# Altium footprint library PcbLib3.pcblib: 44 footprints (part 1 of 3)
Each footprint in its own frame and in the unit in brackets; x right, y up, seen from the top. Pads: shape width x height; smd on the part's side, far side on the other; paste and mask are expansions set on the pad; w line width, h text height; cw(c..) or ccw(c..) is an arc to the next point about the centre after c.
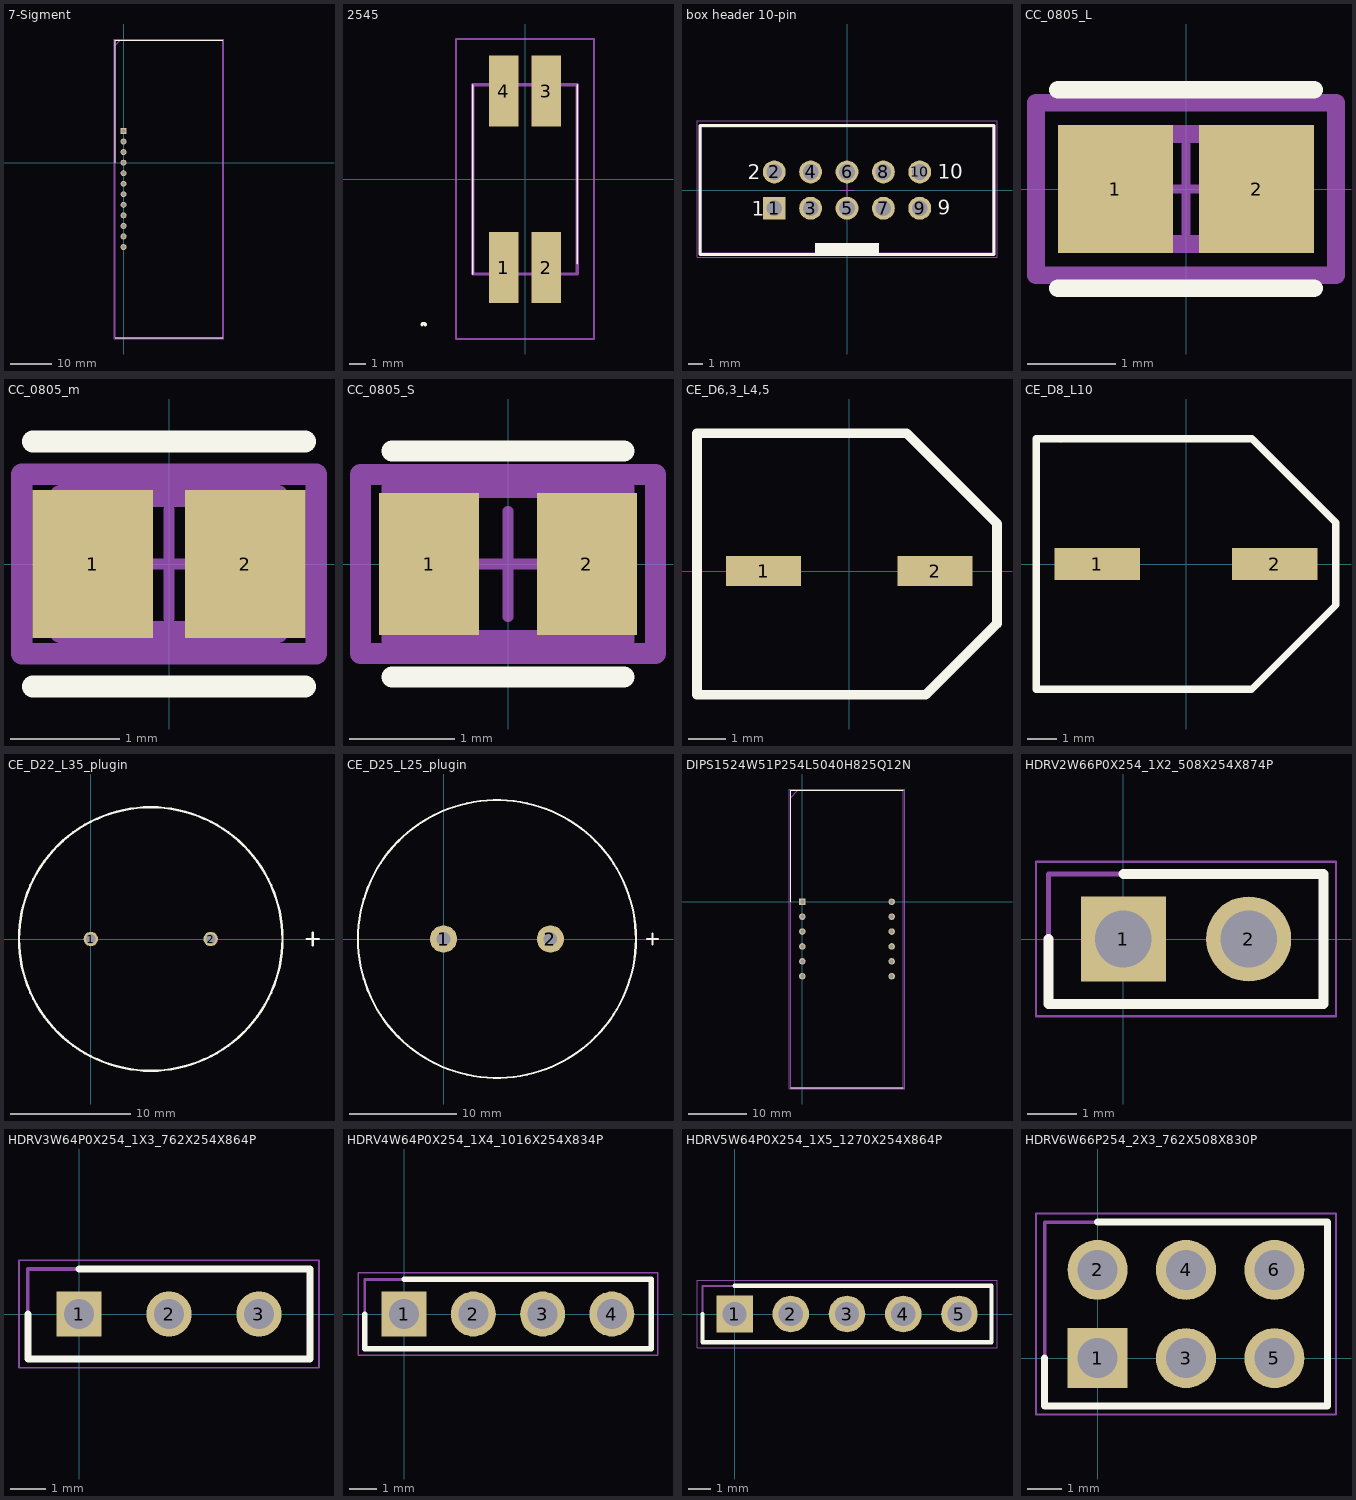
[diagram p0: the footprints below, top view; thin cyan lines are the x and y axes]

## 7-Sigment [mm]
pads (12):
  rect 1.425x1.425 hole 0.95: 1(0,7.62)
  round 1.425 hole 0.95: 2(0,5.08) 3(0,2.54) 4(0,0) 5(0,-2.54) 6(0,-5.08) 7(0,-7.62) 8(0,-10.16) 9(0,-12.7) 10(0,-15.24) 11(0,-17.78) 12(0,-20.32)
Top Overlay:
  lines w0.2: -2.025,-42.225 23.925,-42.225 ; -2.025,0 -2.025,29.525 23.925,29.525
Mechanical 13:
  lines w0.1: -2.025,28.255 -0.755,29.525 ; -2.025,-42.225 23.925,-42.225 23.925,29.525 -2.025,29.525 -2.025,-42.225
Mechanical 15:
  lines w0.05: -2.275,-42.475 24.175,-42.475 24.175,29.775 -2.275,29.775 -2.275,-42.475

## 2545 [mm]
pads (4):
  rect 1.78x4.27 smd: 1(-1.27,-5.305) 2(1.27,-5.305) 3(1.27,5.305) 4(-1.27,5.305)
Top Overlay:
  lines w0.1: -3.15,-5.69 -3.15,5.69 ; 3.15,-5.08 3.15,5.69
  lines w0.2: -6.196,-8.763 cw(c-6.096,-8.763) -5.996,-8.763
Mechanical 13:
  lines w0.2: -3.15,-5.69 3.15,-5.69 3.15,5.69 -3.15,5.69 -3.15,-5.69
Mechanical 15:
  lines w0.1: -4.15,-9.6 4.15,-9.6 4.15,8.44 -4.15,8.44 -4.15,-9.6
3D body "CM2545X171R-10.stp": height 9.6, standoff 0, extent -3.15,-7.262 3.15,7.262

## box header 10-pin [mm] "10 pins, straight, gold plating"
height 9.1
pads (10):
  rect 1.6x1.6 hole 1.1: 1(-5.08,-1.27)
  round 1.6 hole 1.1: 2(-5.08,1.27) 3(-2.54,-1.27) 4(-2.54,1.27) 5(0,-1.27) 6(0,1.27) 7(2.54,-1.27) 8(2.54,1.27) 9(5.08,-1.27) 10(5.08,1.27)
Top Overlay:
  rectangle: -2.25,-4.5 2.25,-3.7
  lines w0.2: -10.28,-4.5 -10.28,4.5 10.28,4.5 10.28,-4.5 -10.28,-4.5
  text "9" at 6.34,-1.74 h1.02
  text "10" at 6.34,0.8 h1.02
  text "2" at -6.94,0.74 h1.02
  text "1" at -6.64,-1.8 h1.02
Mechanical 13:
  rectangle: -2.25,-4.425 2.25,-3.7
  lines w0.1: -10.18,-4.425 10.18,-4.425 10.18,4.425 -10.18,4.425 -10.18,-4.425
Mechanical 15:
  lines w0.05: -0.5,0 0.5,0 ; 0,-0.5 0,0.5 ; -10.48,-4.7 -10.48,4.85 10.48,4.85 10.48,-4.7 -10.48,-4.7
3D body "61201021621.stp": height 9.13, standoff -2.98, extent -10.18,-4.425 10.18,4.75

## CC_0805_L [mm]
pads (2):
  rect 1.305x1.456 smd paste+0 mask+0: 1(-0.801,0) 2(0.801,0)
Top Overlay:
  lines w0.2: -1.453,-1.128 1.453,-1.128 ; -1.453,1.128 1.453,1.128
Top 3D Body:
  lines w0.2: -1,-0.625 1,-0.625 1,0.625 -1,0.625 -1,-0.625
Top Courtyard:
  lines w0.2: -1.703,-0.978 1.703,-0.978 1.703,0.978 -1.703,0.978 -1.703,-0.978
Top Assembly:
  lines w0.2: -1.703,-0.978 1.703,-0.978 1.703,0.978 -1.703,0.978 -1.703,-0.978
Top Component Center:
  lines w0.1: -0.5,0 0.5,0 ; 0,-0.5 0,0.5
3D body "Cap_KEMET_C0805C472J3HAC_eec.STEP": height 0.25, standoff 0, extent -1.703,-0.978 1.703,0.978

## CC_0805_m [mm]
pads (2):
  rect 1.105x1.356 smd paste+0 mask+0: 1(-0.701,0) 2(0.701,0)
Top Overlay:
  lines w0.2: -1.253,-1.125 1.253,-1.125 ; -1.253,1.125 1.253,1.125
Top 3D Body:
  lines w0.2: -1,-0.625 1,-0.625 1,0.625 -1,0.625 -1,-0.625
Top Courtyard:
  lines w0.2: -1.353,-0.825 1.353,-0.825 1.353,0.825 -1.353,0.825 -1.353,-0.825
Top Assembly:
  lines w0.2: -1.353,-0.825 1.353,-0.825 1.353,0.825 -1.353,0.825 -1.353,-0.825
Top Component Center:
  lines w0.1: -0.5,0 0.5,0 ; 0,-0.5 0,0.5
3D body "Cap_KEMET_C0805C472J3HAC_eec.STEP": height 0.25, standoff 0, extent -1.353,-0.825 1.353,0.825

## CC_0805_S [mm]
pads (2):
  rect 0.95x1.35 smd paste+0 mask+0: 1(-0.75,0) 2(0.75,0)
Top Overlay:
  lines w0.2: -1.1,-1.075 1.1,-1.075 ; -1.1,1.075 1.1,1.075
Top 3D Body:
  lines w0.2: -1.1,-0.725 -1.1,0.725 1.1,0.725 1.1,-0.725 -1.1,-0.725
Top Courtyard:
  lines w0.2: -1.4,-0.85 -1.4,0.85 1.4,0.85 1.4,-0.85 -1.4,-0.85
Top Assembly:
  lines w0.2: -1.4,-0.85 -1.4,0.85 1.4,0.85 1.4,-0.85 -1.4,-0.85
Top Component Center:
  lines w0.1: -0.5,0 0.5,0 ; 0,-0.5 0,0.5
3D body "Cap_KEMET_C0805C472J3HAC_eec.STEP": height 0.25, standoff 0, extent -1.4,-0.85 1.4,0.85

## CE_D6,3_L4,5 [mm]
pads (2):
  rect 2x0.8 smd: 1(-2.286,0) 2(2.286,0)
Top Overlay:
  lines w0.254: -4.064,-3.3 -4.064,0.002 -4.064,3.683 -0.383,3.683 1.524,3.683 3.937,1.27 3.937,-1.397 2.034,-3.3 -4.064,-3.3

## CE_D8_L10 [mm]
pads (2):
  rect 2.9x1.1 smd: 1(-3,0) 2(3,0)
Top Layer:
  lines w0.254: -4.259,4.25 -4.25,4.241
Top Overlay:
  lines w0.254: -5.08,-4.25 2.218,-4.25 5.08,-1.388 5.08,-0.83 5.08,1.397 2.227,4.25 -5.08,4.25 -5.08,-4.25

## CE_D22_L35_plugin [mm]
pads (2):
  round 1.2 hole 0.8: 1(0,0) 2(10,0)
Top Overlay:
  circle w0.2: c5,0 r11
  lines w0.2: 18.032,0 19.048,0 ; 18.54,-0.508 18.54,0.508

## CE_D25_L25_plugin [mm]
pads (2):
  round 2.54 hole 1.27: 1(0,0) 2(10,0)
Top Overlay:
  circle w0.2: c5,0 r13
  lines w0.2: 19.05,0 20.066,0 ; 19.558,-0.508 19.558,0.508

## DIPS1524W51P254L5040H825Q12N [mm]
pads (12):
  rect 1.1x1.1 hole 0.7: 1(0,0)
  round 1.1 hole 0.7: 2(0,-2.54) 3(0,-5.08) 4(0,-7.62) 5(0,-10.16) 6(0,-12.7) 7(15.24,-12.7) 8(15.24,-10.16) 9(15.24,-7.62) 10(15.24,-5.08) 11(15.24,-2.54) 12(15.24,0)
Top Overlay:
  lines w0.2: -2.005,-31.675 17.245,-31.675 ; -2.005,0 -2.005,18.975 17.245,18.975
Mechanical 13:
  lines w0.1: -2.005,17.705 -0.735,18.975 ; -2.005,-31.675 17.245,-31.675 17.245,18.975 -2.005,18.975 -2.005,-31.675
Mechanical 15:
  lines w0.05: -2.255,-31.925 17.495,-31.925 17.495,19.225 -2.255,19.225 -2.255,-31.925

## HDRV2W66P0X254_1X2_508X254X874P [mm]
pads (2):
  rect 1.725x1.725 hole 1.15: 1(0,0)
  round 1.725 hole 1.15: 2(2.54,0)
Top Overlay:
  lines w0.2: -1.52,0 -1.52,-1.32 4.06,-1.32 4.06,1.32 0,1.32
Mechanical 13:
  lines w0.1: -1.52,-1.32 -1.52,1.32 4.06,1.32 4.06,-1.32 -1.52,-1.32
Mechanical 15:
  lines w0.05: -1.77,-1.57 -1.77,1.57 4.31,1.57 4.31,-1.57 -1.77,-1.57
3D body "M20-9990246.stp": height 8.74, standoff -3, extent -1.27,-1.27 3.81,1.27

## HDRV3W64P0X254_1X3_762X254X864P [mm]
pads (3):
  rect 1.275x1.275 hole 0.85: 1(0,0)
  round 1.275 hole 0.85: 2(2.54,0) 3(5.08,0)
Top Overlay:
  lines w0.2: -1.445,0 -1.445,-1.27 6.525,-1.27 6.525,1.27 0,1.27
Mechanical 13:
  lines w0.1: -1.445,-1.27 -1.445,1.27 6.525,1.27 6.525,-1.27 -1.445,-1.27
Mechanical 15:
  lines w0.05: -1.695,-1.52 -1.695,1.52 6.775,1.52 6.775,-1.52 -1.695,-1.52
3D body "M20-9990345.stp": height 8.64, standoff -3, extent -1.27,-1.27 6.35,1.27

## HDRV4W64P0X254_1X4_1016X254X834P [mm]
pads (4):
  rect 1.65x1.65 hole 1.1: 1(0,0)
  round 1.65 hole 1.1: 2(2.54,0) 3(5.08,0) 4(7.62,0)
Top Overlay:
  lines w0.2: -1.445,0 -1.445,-1.27 9.065,-1.27 9.065,1.27 0,1.27
Mechanical 13:
  lines w0.1: -1.445,-1.27 -1.445,1.27 9.065,1.27 9.065,-1.27 -1.445,-1.27
Mechanical 15:
  lines w0.05: -1.695,-1.52 -1.695,1.52 9.315,1.52 9.315,-1.52 -1.695,-1.52
3D body "M20-9770446.stp": height 8.34, standoff -3.1, extent -1.27,-1.27 8.89,1.27

## HDRV5W64P0X254_1X5_1270X254X864P [mm]
pads (5):
  rect 1.65x1.65 hole 1.1: 1(0,0)
  round 1.65 hole 1.1: 2(2.54,0) 3(5.08,0) 4(7.62,0) 5(10.16,0)
Top Overlay:
  lines w0.2: -1.445,0 -1.445,-1.27 11.605,-1.27 11.605,1.27 0,1.27
Mechanical 13:
  lines w0.1: -1.445,-1.27 11.605,-1.27 11.605,1.27 -1.445,1.27 -1.445,-1.27
Mechanical 15:
  lines w0.05: -1.695,-1.52 11.855,-1.52 11.855,1.52 -1.695,1.52 -1.695,-1.52
3D body "M20-9990545.stp": height 8.64, standoff -3, extent -1.27,-1.27 11.43,1.27

## HDRV6W66P254_2X3_762X508X830P [mm]
pads (6):
  rect 1.725x1.725 hole 1.15: 1(0,0)
  round 1.725 hole 1.15: 2(0,2.54) 3(2.54,0) 4(2.54,2.54) 5(5.08,0) 6(5.08,2.54)
Top Overlay:
  lines w0.2: -1.52,0 -1.52,-1.37 6.6,-1.37 6.6,3.91 0,3.91
Mechanical 13:
  lines w0.1: -1.52,-1.37 -1.52,3.91 6.6,3.91 6.6,-1.37 -1.52,-1.37
Mechanical 15:
  lines w0.05: -1.77,-1.62 -1.77,4.16 6.85,4.16 6.85,-1.62 -1.77,-1.62
3D body "M20-9760342.stp": height 8.38, standoff -3.1, extent -1.27,-1.27 6.35,3.81